# Altium footprint library PCB - CONNECTOR - HARWIN - HARWIN M20-9740745.PcbLib: 1 footprints
Each footprint in its own frame and in the unit in brackets; x right, y up, seen from the top. Pads: shape width x height; smd on the part's side, far side on the other; paste and mask are expansions set on the pad; w line width, h text height; cw(c..) or ccw(c..) is an arc to the next point about the centre after c.
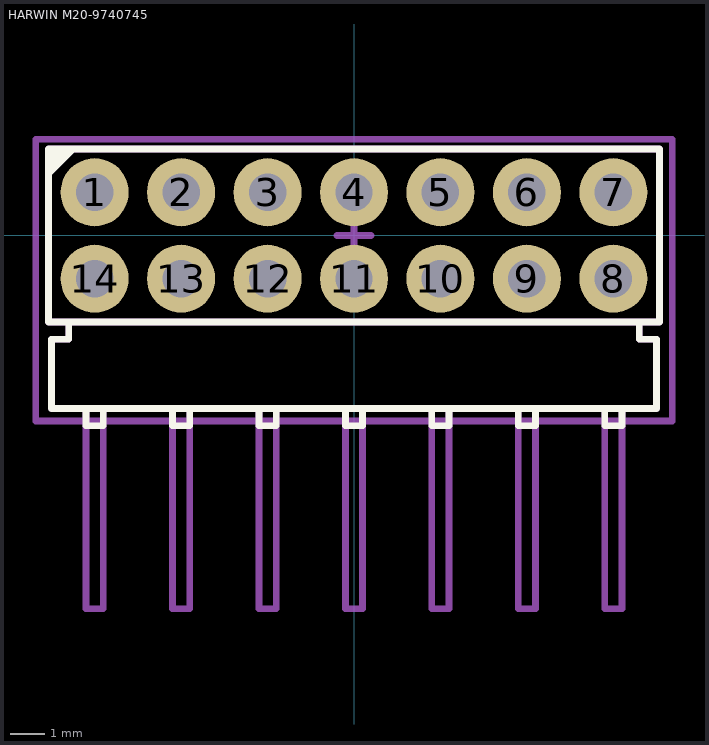
[diagram p0: the footprint, top view; thin cyan lines are the x and y axes]

## HARWIN M20-9740745 [mm] "2.54mm DIL PC TAIL PIN HEADER ASSEMBLY"
height 2.54
pads (14):
  round 2 hole 1.1: 1(-7.62,1.27) 2(-5.08,1.27) 3(-2.54,1.27) 4(0,1.27) 5(2.54,1.27) 6(5.08,1.27) 7(7.62,1.27) 8(7.62,-1.27) 9(5.08,-1.27) 10(2.54,-1.27) 11(0,-1.27) 12(-2.54,-1.27) 13(-5.08,-1.27) 14(-7.62,-1.27)
Top Overlay:
  region: -9,2.57 -9,1.67 -8.1,2.57
  lines w0.2: -8.382,-2.54 -8.382,-3.048 -8.89,-3.048 -8.89,-5.08 8.89,-5.08 8.89,-3.048 8.382,-3.048 8.382,-2.54 ; -7.874,-5.08 -7.874,-5.588 -7.366,-5.588 -7.366,-5.08 ; -5.334,-5.08 -5.334,-5.588 -4.826,-5.588 -4.826,-5.08 ; -2.794,-5.08 -2.794,-5.588 -2.286,-5.588 -2.286,-5.08 ; -0.254,-5.08 -0.254,-5.588 0.254,-5.588 0.254,-5.08 ; 2.286,-5.08 2.286,-5.588 2.794,-5.588 2.794,-5.08 ; 4.826,-5.08 4.826,-5.588 5.334,-5.588 5.334,-5.08 ; 7.366,-5.08 7.366,-5.588 7.874,-5.588 7.874,-5.08 ; -8.98,-2.54 8.98,-2.54 8.98,2.54 -8.98,2.54 -8.98,-2.54
Top Assembly:
  lines w0.2: -7.874,-2.54 -8.382,-2.54 -8.382,-3.048 -8.89,-3.048 -8.89,-5.08 -7.874,-5.08 -7.874,-10.97 -7.366,-10.97 -7.366,-5.08 -5.334,-5.08 -5.334,-10.97 -4.826,-10.97 -4.826,-5.08 -2.794,-5.08 -2.794,-10.97 -2.286,-10.97 -2.286,-5.08 -0.254,-5.08 -0.254,-10.97 0.254,-10.97 0.254,-5.08 2.286,-5.08 2.286,-10.97 2.794,-10.97 2.794,-5.08 4.826,-5.08 4.826,-10.97 5.334,-10.97 5.334,-5.08 7.366,-5.08 7.366,-10.97 7.874,-10.97 7.874,-5.08 8.89,-5.08 8.89,-3.048 8.382,-3.048 8.382,-2.54 7.874,-2.54 ; -0.5,0 0.5,0 ; 0,-0.5 0,0.5 ; -8.98,-2.54 -8.98,2.54 8.98,2.54 8.98,-2.54 -8.98,-2.54
Top Courtyard (Mech15):
  lines w0.2: -9.35,-5.454 -9.35,2.83 9.35,2.83 9.35,-5.454 -9.35,-5.454
3D body "M20-7830742.step": height 5, standoff -3.04, extent -8.89,-10.97 8.89,1.59